# EAGLE library part 52745-1097 (library KW2)
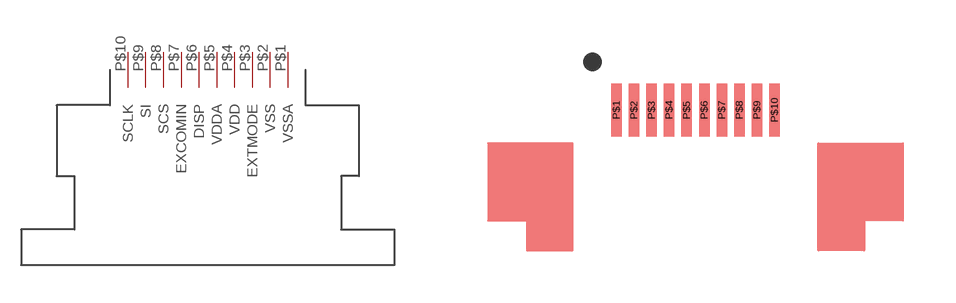
[diagram p10: symbol with the pads of 52745-1097; footprint 52745-1097]

Designator prefix J

## 52745-1097  [52745-1097]
P$1  VSSA
P$2  VSS
P$3  EXTMODE
P$4  VDD
P$5  VDDA
P$6  DISP
P$7  EXCOMIN
P$8  SCS
P$9  SI
P$10  SCLK

## Footprint 52745-1097 (pad centres in mm)
smd 0.3 x 1.5: P$1 -2.25,0.95; P$2 -1.75,0.95; P$3 -1.25,0.95; P$4 -0.75,0.95; P$5 -0.25,0.95; P$6 0.25,0.95; P$7 0.75,0.95; P$8 1.25,0.95; P$9 1.75,0.95; P$10 2.25,0.95